# Altium schematic symbol library Schlib1_doug2.SchLib: 1 symbol
Pins are listed as number, name and electrical type; pins without a type are passive.

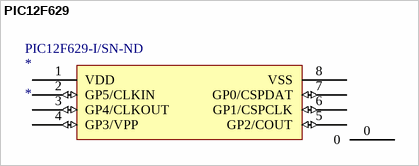
[diagram p0: symbol PIC12F629]

## PIC12F629
designator *  Supplier Part Number 1: PIC12F629-I/SN-ND
Supplier 1: Digi-Key
footprint Model Name (Footprint not found)
footprint SOIC127P600X175-8N (SOIC, 8-Leads, Body 4.90x3.85mm, Pitch 1.27mm, IPC Medium Density)
pins: 0, 1 VDD (power), 2 GP5/CLKIN (io), 3 GP4/CLKOUT (io), 4 GP3/VPP (io), 5 GP2/COUT (io), 6 GP1/CSPCLK (io), 7 GP0/CSPDAT (io), 8 VSS (power)